# EAGLE library part ST9S008V4AR1500 (library Common-Parts-Library-Eagle)
Conn; Data; microSD; 8+2Cnts; SMD/SMT; SF9Series; RtAngle; 0.5A; 10V; forMicroSDCard
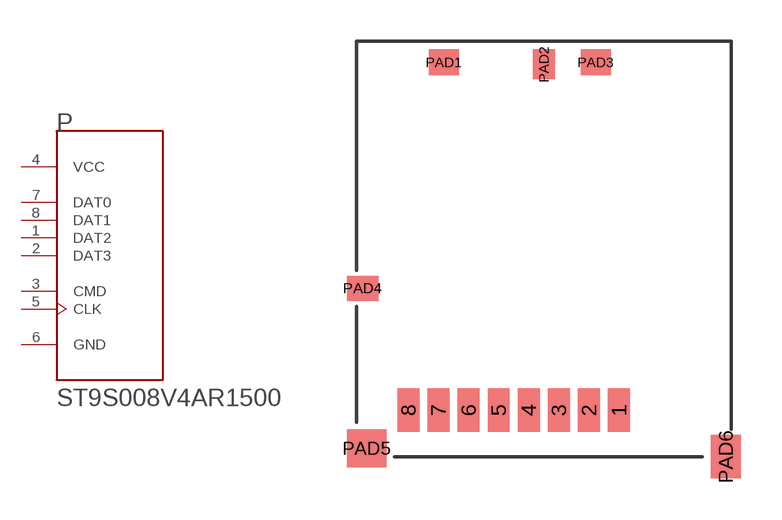
[diagram p4: symbol with the pads of JAE_ST9S008V4AR1500; footprint JAE_ST9S008V4AR1500]

Designator prefix P

## ST9S008V4AR1500 (MANUFACTURER: JAE)  [JAE_ST9S008V4AR1500]
1  DAT2
2  DAT3
3  CMD  in
4  VCC  pwr
5  CLK  in
6  GND  pwr
7  DAT0
8  DAT1

## Footprint JAE_ST9S008V4AR1500 (pad centres in mm)
smd 0.8 x 1.6: 1 3.2,1.7; 2 2.1,1.7; 3 1,1.7; 4 -0.1,1.7; 5 -1.2,1.7; 6 -2.3,1.7; 7 -3.4,1.7; 8 -4.5,1.7
smd 1.1 x 0.95: PAD1 -3.2,14.425; PAD3 2.35,14.425
smd 0.8 x 1.1: PAD2 0.45,14.35
smd 1.15 x 0.9: PAD4 -6.175,6.15
smd 1.45 x 1.4: PAD5 -6.025,0.3
smd 1.1 x 1.6: PAD6 7.1,0